# Altium schematic symbol library B6B-XH-A.SchLib: 1 symbol
Pins are listed as number, name and electrical type; pins without a type are passive.

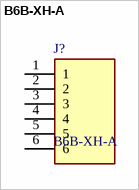
[diagram p0: symbol B6B-XH-A]

## B6B-XH-A
designator J?
Connector Header, XH Series, 6 Position, 2.50mm, Through Hole, Press-Fit, Solder, Natural; Manufacturer_Name: JST (JAPAN SOLDERLESS TERMINALS); Geometry.Height: 7mm; Manufacturer_Part_Number: B6B-XH-A; Mouser Part Number: *; Mouser Price/Stock: *; Arrow Part Number: *; Arrow Price/Stock: *; Datasheet Link: https://www.jst.com/wp-content/uploads/2021/01/eXH-new.pdf
footprint B6BXHA
pins: 1, 2, 3, 4, 5, 6